# Altium footprint library 878311411.PcbLib: 1 footprints
Each footprint in its own frame and in the unit in brackets; x right, y up, seen from the top. Pads: shape width x height; smd on the part's side, far side on the other; paste and mask are expansions set on the pad; w line width, h text height; cw(c..) or ccw(c..) is an arc to the next point about the centre after c.
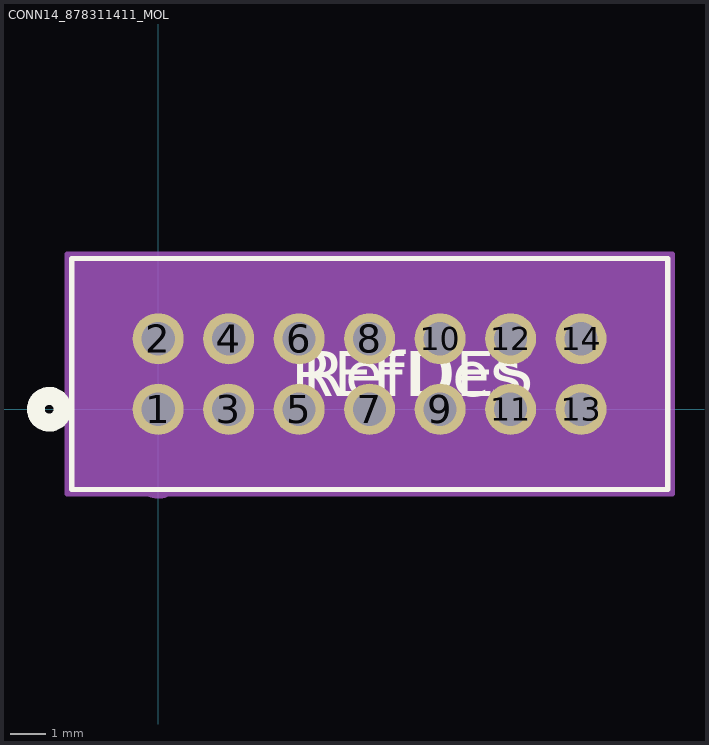
[diagram p0: the footprint, top view; thin cyan lines are the x and y axes]

## CONN14_878311411_MOL [mil]
pads (14):
  round 57 / inner round 60 / far side round 57 hole 37 paste-28.5 mask+0: 1(0,0) 2(0,78.74) 3(78.74,0) 4(78.74,78.74) 5(157.48,0) 6(157.48,78.74) 7(236.22,0) 8(236.22,78.74) 9(314.96,0) 10(314.96,78.74) 11(393.7,0) 12(393.7,78.74) 13(472.44,0) 14(472.44,78.74)
Top Overlay:
  circle w20: c-121.78,0 r15
  lines w6: -96.78,-89.61 569.22,-89.61 569.22,168.39 -96.78,168.39 -96.78,-89.61
  text "RefDes" at 161.22,14.37 h50
  text "REFDES" at 148.72,14.37 h50
Bottom Overlay:
  circle w20: c-121.78,0 r15
Mechanical 13:
  circle w20: c0,-75 r15
  lines w1: -91.78,-84.61 564.22,-84.61 564.22,163.39 -91.78,163.39 -91.78,-84.61
  text "RefDes2" at 148.72,14.37 h50
Mechanical 15:
  region: 574.22,173.39 -101.78,173.39 -101.78,-94.61 574.22,-94.61
  lines w6: -101.78,-94.61 -101.78,173.39 574.22,173.39 574.22,-94.61 -101.78,-94.61